# Altium footprint library golgi_bot_ESP_V2.01.PcbLib: 18 footprints (part 2 of 2)
Each footprint in its own frame and in the unit in brackets; x right, y up, seen from the top. Pads: shape width x height; smd on the part's side, far side on the other; paste and mask are expansions set on the pad; w line width, h text height; cw(c..) or ccw(c..) is an arc to the next point about the centre after c.
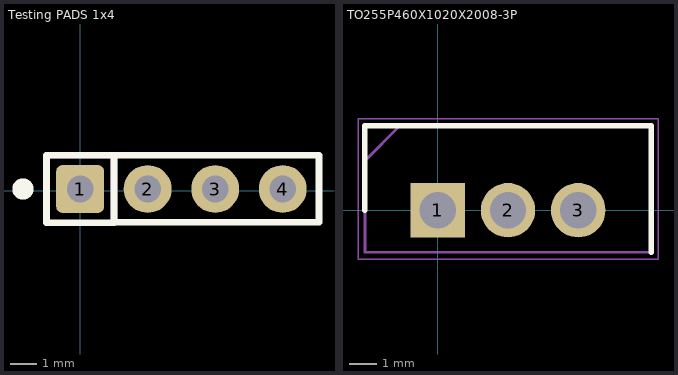
[diagram p1: the footprints below, top view; thin cyan lines are the x and y axes]

## Testing PADS 1x4 [mm]
pads (4):
  rrect25% 1.8x1.8 hole 1: 1(-0.01,0.075)
  round 1.8 hole 1: 2(2.53,0.075) 3(5.07,0.075) 4(7.61,0.075)
Top Overlay:
  circle w0.5: c-2.16,0.075 r0.15
  lines w0.254: -1.28,1.345 1.26,1.345 1.26,-1.195 ; -1.28,1.345 -1.28,-1.195 1.26,-1.195 ; -1.28,1.345 8.975,1.345 8.975,-0.375 8.975,-1.175 1.28,-1.175 1.26,-1.195
Mechanical 3:
  lines w0.254: -1.28,-1.195 -1.28,1.345 1.26,1.345 1.26,-1.195

## TO255P460X1020X2008-3P [mm]
pads (3):
  rect 1.98x1.98 hole 1.32: 1(0,0)
  round 1.98 hole 1.32: 2(2.55,0) 3(5.1,0)
Top Overlay:
  lines w0.2: -2.65,0 -2.65,3.07 7.75,3.07 7.75,-1.53
Mechanical 13:
  lines w0.1: -2.65,1.795 -1.375,3.07 ; -2.65,-1.53 7.75,-1.53 7.75,3.07 -2.65,3.07 -2.65,-1.53
Mechanical 15:
  lines w0.05: -2.9,-1.78 8,-1.78 8,3.32 -2.9,3.32 -2.9,-1.78
3D body "L7805CV.stp": height 19.21, standoff -18.2, extent -2.55,-1.53 7.65,3.07